# Altium footprint library Miscellaneous Devices.PcbLib: 215 footprints (part 7 of 14)
Each footprint in its own frame and in the unit in brackets; x right, y up, seen from the top. Pads: shape width x height; smd on the part's side, far side on the other; paste and mask are expansions set on the pad; w line width, h text height; cw(c..) or ccw(c..) is an arc to the next point about the centre after c.
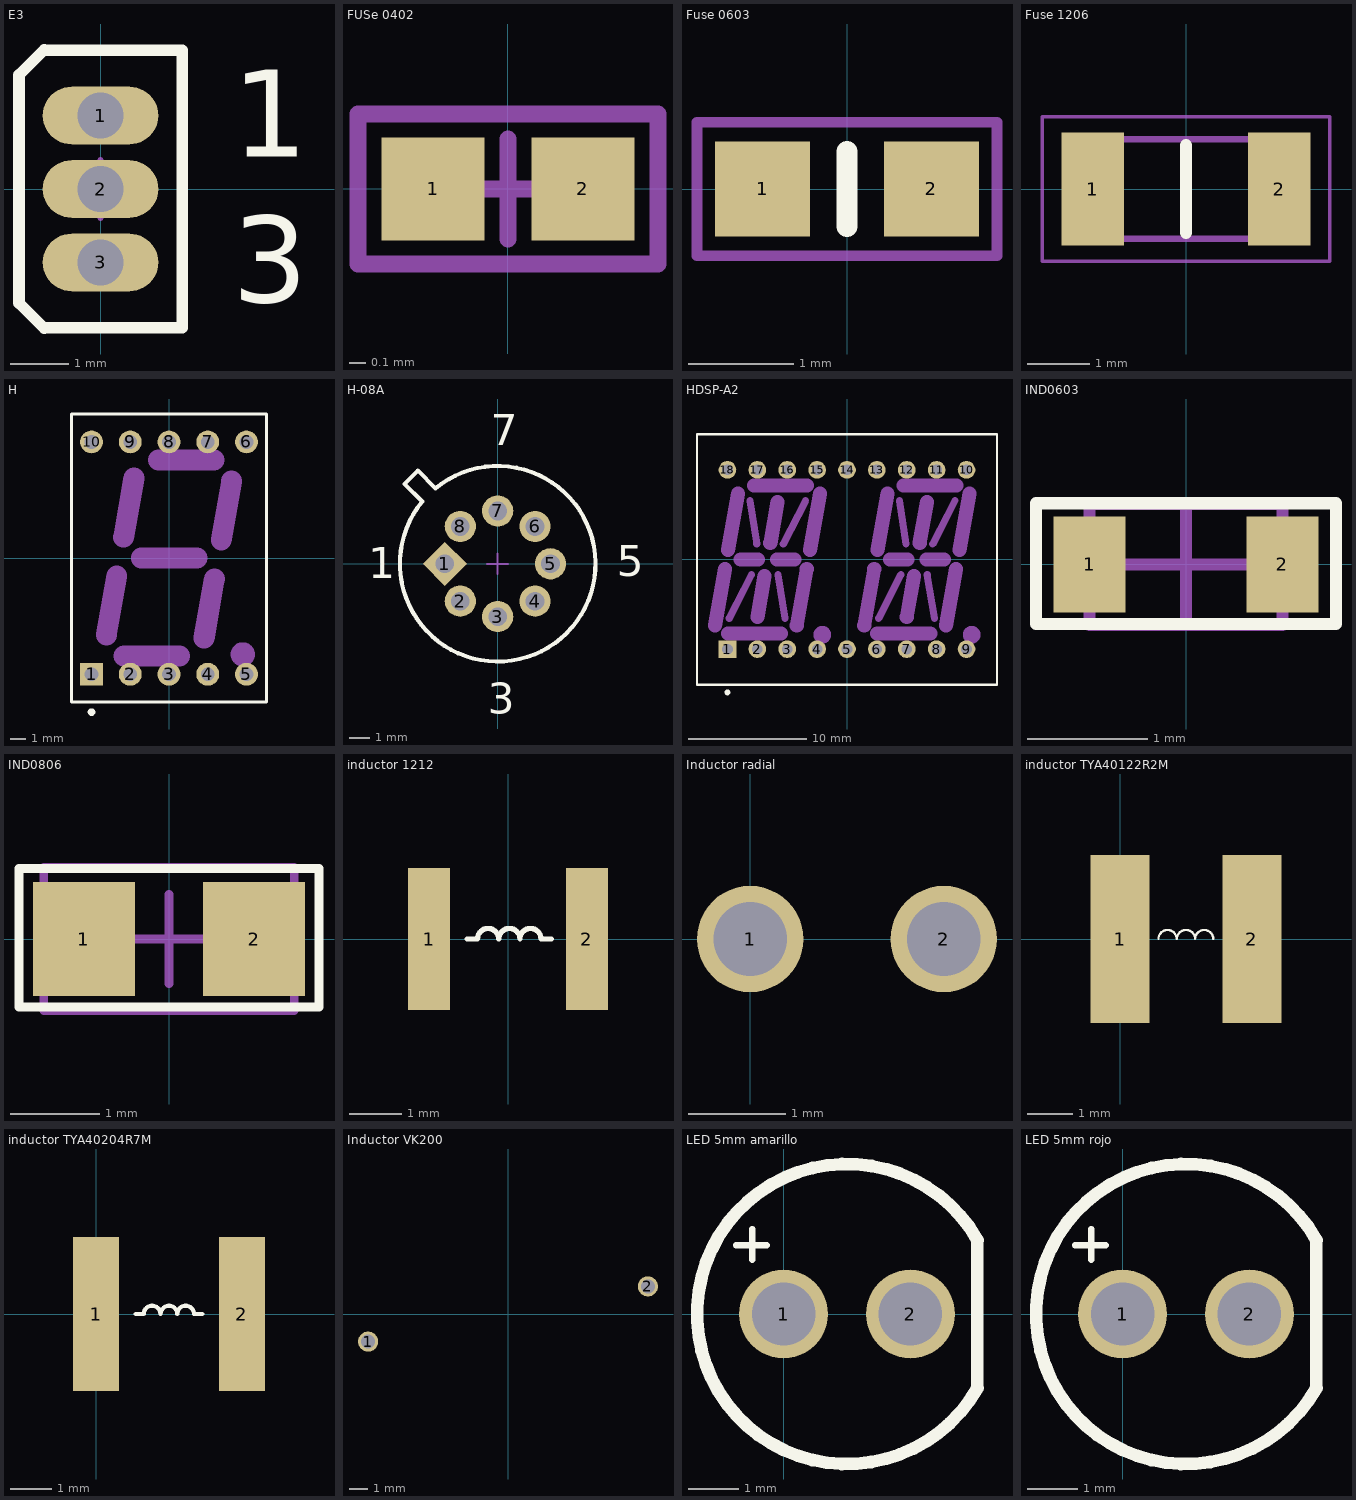
[diagram p6: the footprints below, top view; thin cyan lines are the x and y axes]

## E3 [mm] "TO, Flat Index; 3 In-Line, Axial Leads; Body Dia. 4.6mm; Lead Dia. 0.5 mm (max)"
height 4.01
pads (3):
  oval 2x1 hole 0.8: 1(0,1.27) 2(0,0) 3(0,-1.27)
Top Overlay:
  lines w0.2: -0.97,-2.41 -1.41,-1.97 -1.41,1.97 -0.97,2.41 ; -0.97,-2.4 1.41,-2.4 1.41,2.4 -0.97,2.4
  text "3" at 2.275,-1.963 h1.5
  text "1" at 2.275,0.555 h1.5
Mechanical 15:
  lines w0.1: -0.5,0 0.5,0 ; 0,-0.5 0,0.5

## FUSe 0402 [mm]
height 1.3
pads (2):
  rect 0.62x0.62 smd: 1(-0.45,0) 2(0.45,0)
Mechanical 15:
  lines w0.1: -0.3,0 0.3,0 ; 0,-0.3 0,0.3 ; -0.9,-0.45 0.9,-0.45 0.9,0.45 -0.9,0.45 -0.9,-0.45
3D body "CAP0402.STEP": height 0.5, standoff 0, extent -0.35,-0.25 0.35,0.25
3D body "Fuse 0402.STEP": height 0.51, standoff 0, extent -0.5,-0.256 0.5,0.256

## Fuse 0603 [mm]
height 1.3
pads (2):
  rect 0.9x0.9 smd: 1(-0.8,0) 2(0.8,0)
Top Overlay:
  lines w0.2: 0,-0.356 0,0.356
Mechanical 15:
  lines w0.1: -1.422,-0.635 1.422,-0.635 1.422,0.635 -1.422,0.635 -1.422,-0.635
3D body "fuse 0603.stp": height 0.45, standoff 0, extent -0.8,-0.4 0.8,0.4

## Fuse 1206 [mm]
pads (2):
  rect 1x1.82 smd: 1(-1.5,0) 2(1.5,0)
Top Overlay:
  lines w0.2: 0,-0.7 0,0.7
Mechanical 13:
  lines w0.1: -1.6,-0.8 1.6,-0.8 1.6,0.8 -1.6,0.8 -1.6,-0.8
Mechanical 15:
  lines w0.05: -2.31,-1.16 2.31,-1.16 2.31,1.16 -2.31,1.16 -2.31,-1.16
3D body "MF-NSMF020-2.stp": height 0.85, standoff 0, extent -1.6,-0.8 1.6,0.8

## H [mm] "LED, 7-Segment Display, 14.2 mm, RHD; 10 Leads; Row Space 15.24 mm; Pitch 2.54 mm"
height 8.25
pads (10):
  rect 1.5x1.5 hole 0.9: 1(-5.08,-7.62)
  round 1.5 hole 0.9: 2(-2.54,-7.62) 3(0,-7.62) 4(2.54,-7.62) 5(5.08,-7.62) 6(5.08,7.62) 7(2.54,7.62) 8(0,7.62) 9(-2.54,7.62) 10(-5.08,7.62)
Top Overlay:
  circle w0.25: c-5.08,-10.1 r0.125
  lines w0.2: -6.4,-9.45 6.4,-9.45 6.4,9.45 -6.4,9.45 -6.4,-9.45
Mechanical 1:
  circle w1: c4.842,-6.316 r0.296
  lines w1.37: -4.108,-5.054 -3.425,-1.17 ; -2.974,1.368 -2.293,5.255 ; -2.958,-6.429 0.692,-6.426 ; -1.821,0 1.828,0 ; -0.689,6.425 2.96,6.425 ; 2.295,-5.256 2.98,-1.371 ; 3.427,1.169 4.11,5.058
Mechanical 13:
  lines w0.1: -6.4,-9.45 -6.4,9.45 6.4,9.45 6.4,-9.45 -6.4,-9.45
3D body: height 8.25, standoff 0, extent -6.4,-9.45 6.4,9.45

## H-08A [mm] "Can; 8 Leads; Pin Circle Dia. 5.08 mm; Lead Dia. 0.53 mm (max)"
height 4.7
pads (8):
  rect 1.5x1.5 hole 0.9 rot 45: 1(-2.54,0)
  round 1.5 hole 0.9: 2(-1.796,-1.796) 3(0,-2.54) 4(1.796,-1.796) 5(2.54,0) 6(1.796,1.796) 7(0,2.54) 8(-1.796,1.796)
Top Overlay:
  lines w0.2: -4.475,3.838 -3.838,4.475 -2.99,3.626 cw(c0,0) -3.626,2.99 -4.475,3.838
  text "1" at -6.22,-0.696 h1.5
  text "3" at -0.469,-7.22 h1.5
  text "5" at 5.712,-0.589 h1.5
  text "7" at -0.332,5.7 h1.5
Mechanical 15:
  lines w0.1: -0.5,0 0.5,0 ; 0,-0.5 0,0.5

## HDSP-A2 [mm] "LED, Alphanumeric Display, 13.8 mm, Dual Character; 18 Leads; Row Space 15.24 mm; Pitch 2.54 mm"
height 7.27
pads (18):
  rect 1.5x1.5 hole 0.9: 1(-10.16,-7.62)
  round 1.5 hole 0.9: 2(-7.62,-7.62) 3(-5.08,-7.62) 4(-2.54,-7.62) 5(0,-7.62) 6(2.54,-7.62) 7(5.08,-7.62) 8(7.62,-7.62) 9(10.16,-7.62) 10(10.16,7.62) 11(7.62,7.62) 12(5.08,7.62) 13(2.54,7.62) 14(0,7.62) 15(-2.54,7.62) 16(-5.08,7.62) 17(-7.62,7.62) 18(-10.16,7.62)
Top Overlay:
  circle w0.25: c-10.16,-11.3 r0.125
  lines w0.2: -12.75,-10.65 12.75,-10.65 12.75,10.65 -12.75,10.65 -12.75,-10.65
Mechanical 1:
  circle w1.2: c-2.1,-6.4 r0.15
  circle w1.2: c10.6,-6.4 r0.15
  lines w0.6: -10.01,-5 -8.12,-1.3 ; -8.25,5 -7.67,1.3 ; -5.88,-1.3 -5.28,-5 ; -5.42,1.3 -3.52,5 ; 2.69,-5 4.58,-1.3 ; 4.45,5 5.03,1.3 ; 6.82,-1.3 7.42,-5 ; 7.28,1.3 9.18,5
  lines w1.2: -11.23,-5.6 -10.38,-0.8 ; -10.13,-6.3 -5.62,-6.3 ; -10.1,0.8 -9.26,5.58 ; -9.035,0 -7.58,0 ; -7.9,6.3 -3.39,6.3 ; -7.62,-4.89 -7.01,-1.4 ; -6.52,1.41 -5.91,4.89 ; -5.96,0 -4.465,0 ; -4.27,-5.6 -3.42,-0.8 ; -3.13,0.81 -2.3,5.59 ; 1.47,-5.6 2.32,-0.8 ; 2.57,-6.3 7.08,-6.3 ; 2.6,0.8 3.44,5.58 ; 3.665,0 5.14,0 ; 4.8,6.3 9.31,6.3 ; 5.08,-4.89 5.69,-1.4 ; 6.18,1.41 6.79,4.89 ; 6.76,0 8.235,0 ; 8.43,-5.6 9.28,-0.8 ; 9.57,0.81 10.4,5.59
Mechanical 13:
  lines w0.1: -12.75,-10.65 -12.75,10.65 12.75,10.65 12.75,-10.65 -12.75,-10.65
3D body: height 7.27, standoff 0, extent -12.75,-10.65 12.75,10.65

## IND0603 [mm]
pads (2):
  rect 0.6x0.8 smd: 1(-0.8,0) 2(0.8,0)
Top Overlay:
  lines w0.1: -1.245,-0.492 -1.245,0.508 1.245,0.508 1.245,-0.492 -1.245,-0.492
Mechanical 15:
  lines w0.1: -0.5,0 0.5,0 ; 0,-0.5 0,0.5 ; -0.8,-0.5 0.8,-0.5 0.8,0.5 -0.8,0.5 -0.8,-0.5
3D body "IND0603.STEP": height 0.78, standoff -0.02, extent -0.8,-0.4 0.8,0.4

## IND0806 [mm]
pads (2):
  rect 1.14x1.27 smd: 1(-0.95,0) 2(0.95,0)
Top Overlay:
  lines w0.1: -1.676,-0.762 1.676,-0.762 1.676,0.787 -1.676,0.787 -1.676,-0.762
Mechanical 15:
  lines w0.1: -0.5,0 0.5,0 ; 0,-0.5 0,0.5 ; -1.4,-0.8 -1.4,0.8 1.4,0.8 1.4,-0.8 -1.4,-0.8
3D body "IND0806.stp": height 0.5, standoff 0, extent -1,-0.625 1,0.625

## inductor 1212 [mm] "dim: 3x3"
pads (2):
  rect 0.8x2.7 smd: 1(-1.5,0) 2(1.5,0)
Top Overlay:
  lines w0.1: -0.773,0 -0.579,0 cw(c-0.379,0) -0.179,0 ; -0.173,0 cw(c0.027,0) 0.227,0 cw(c0.427,0) 0.627,0 0.827,0
3D body "inductor LQH3NPN4R7MMEL.STEP": height 1.5, standoff 0, extent -1.5,-1.5 1.5,1.5

## Inductor radial [mm] "Diam: 5.0mm"
height 7.5
pads (2):
  round 1.1 hole 0.762: 1(0,0) 2(2,0)
3D body "Inductor Radial.stp": height 7.2, standoff -3.9, extent -1.15,-2.494 3.75,2.4

## inductor TYA40122R2M [mm] "fabricante Laird. 2.2uH 2.8A"
pads (2):
  rect 1.3x3.7 smd: 1(0,0) 2(2.9,0)
Top Overlay:
  lines w0.05: 0.844,0 cw(c1.044,0) 1.244,0 ; 1.25,0 cw(c1.45,0) 1.65,0 cw(c1.85,0) 2.05,0
3D body "inductor TYA40122R2M Liard.STEP": height 1.3, standoff -0.01, extent -0.562,-2 3.438,2

## inductor TYA40204R7M [mm] "fabricante Laird. 4.7uH 4A"
pads (2):
  rect 1.1x3.7 smd: 1(0,0) 2(3.5,0)
Top Overlay:
  lines w0.1: 0.95,0 1.144,0 cw(c1.344,0) 1.544,0 ; 1.55,0 cw(c1.75,0) 1.95,0 cw(c2.15,0) 2.35,0 2.55,0
3D body "inductor TYA40204R7M Liard.STEP": height 2.1, standoff -0.01, extent -0.162,-2 3.838,2

## Inductor VK200 [mm]
pads (2):
  round 1.1 hole 0.762: 1(-7.62,-1.5) 2(7.62,1.5)
3D body "VK200.STEP": height 5, standoff -4, extent -7.9,-2.975 7.94,3.025

## LED 5mm amarillo [mil] "LED; 2 Leads"
pads (2):
  round 70 hole 50: 1(0,0) 2(100,0)
Top Overlay:
  lines w5: -37.4,54.13 -13.19,54.13 ; -24.61,42.72 -24.61,66.93
  lines w10: 152.56,-58.07 152.56,58.07 ; 152.78,-58.32 cw(c50,0) 152.92,58.08
3D body "LED 5mm Amarillo.STEP": height 356.1, standoff -251.97, extent -69.88,-118.11 146.65,118.11

## LED 5mm rojo [mil] "LED; 2 Leads"
pads (2):
  round 70 hole 50: 1(0,0) 2(100,0)
Top Overlay:
  lines w5: -37.4,54.13 -13.19,54.13 ; -24.61,42.72 -24.61,66.93
  lines w10: 152.56,-58.07 152.56,58.07 ; 152.78,-58.32 cw(c50,0) 152.92,58.08
3D body "LED 5mm Rojo.STEP": height 356.1, standoff -251.97, extent -65.95,-118.11 150.59,118.11